# Altium footprint library PcbLib1.PcbLib: 4 footprints
Each footprint in its own frame and in the unit in brackets; x right, y up, seen from the top. Pads: shape width x height; smd on the part's side, far side on the other; paste and mask are expansions set on the pad; w line width, h text height; cw(c..) or ccw(c..) is an arc to the next point about the centre after c.
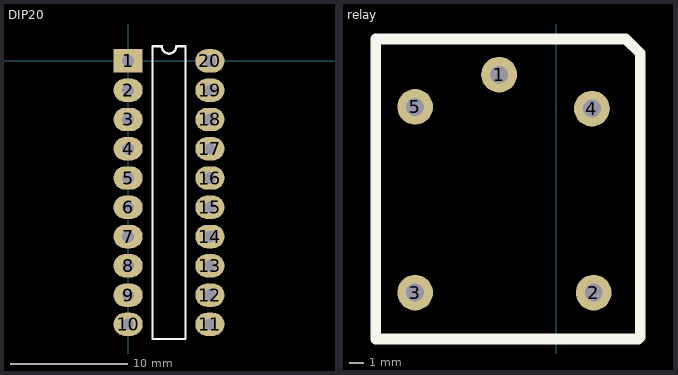
[diagram p0: the footprints below, top view; thin cyan lines are the x and y axes]

## DIP20 [mm]
pads (20):
  rect 2.5x2 / inner rect 2.5x1.2 / far side rect 2.5x2 hole 1: 1(0,0)
  oval 2.5x2 / inner oval 2.5x1.2 / far side oval 2.5x2 hole 1: 2(0,-2.5) 3(0,-5) 4(0,-7.5) 5(0,-10) 6(0,-12.5) 7(0,-15) 8(0,-17.5) 9(0,-20) 10(0,-22.5) 11(7,-22.5) 12(7,-20) 13(7,-17.5) 14(7,-15) 15(7,-12.5) 16(7,-10) 17(7,-7.5) 18(7,-5) 19(7,-2.5) 20(7,0)
Top Overlay:
  lines w0.2: 2.085,-23.75 2.085,1.25 2.875,1.25 ccw(c3.5,1.25) 4.125,1.25 4.915,1.25 4.915,-23.75 2.085,-23.75

## PCBComponent_1 - duplicate [mm]

## PCBComponent_1 - duplicate1 [mm]

## relay [mil]
pads (5):
  round 100 hole 50 mask+0: 1(-160,910) 2(105,300) 3(-395,300) 4(100,815) 5(-395,820)
Top Overlay:
  lines w30: -505,170 230,170 235,175 235,970 195,1010 -505,1010 -505,170